# Altium schematic symbol library TC33X-2-104E.SchLib: 1 symbol
Pins are listed as number, name and electrical type; pins without a type are passive.

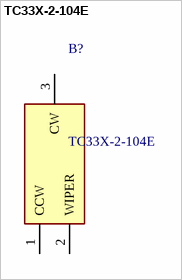
[diagram p0: symbol TC33X-2-104E]

## TC33X-2-104E
designator B?
Trimmer Resistors - SMD 3MM 100KOHMS 25% 0.1WATT OPEN FRM; Manufacturer_Name: Bourns; Geometry.Height: 1.5mm; Mouser Part Number: 652-TC33X-2-104E; Mouser Price/Stock: https://www.mouser.co.uk/ProductDetail/Bourns/TC33X-2-104E?qs=2hAPiALdQ0llyX8B3WfcDg%3D%3D; Manufacturer_Part_Number: TC33X-2-104E; Datasheet Link: https://www.bourns.com/docs/Product-Datasheets/TC33.pdf
footprint TC33X2104E
pins: 1 CCW, 2 WIPER, 3 CW